# EAGLE library part ESP12 (library ESP)
Wi07-12 Footprint
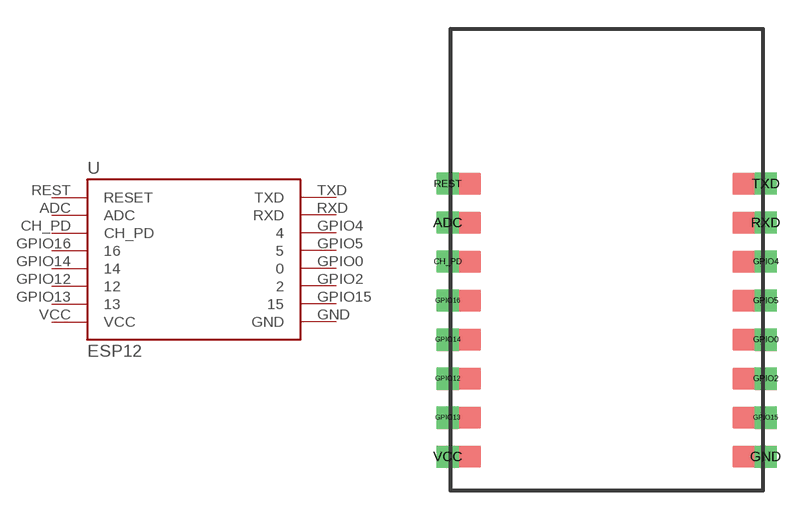
[diagram p2: symbol with the pads of ESP12; footprint ESP12]

Designator prefix U

## ESP12  [ESP12]
ADC  ADC  in
CH_PD  CH_PD  in
GND  GND  pwr
GPIO0  0
GPIO2  2
GPIO4  4
GPIO5  5
GPIO12  12
GPIO13  13
GPIO14  14
GPIO15  15
GPIO16  16
REST  RESET  in
RXD  RXD  out
TXD  TXD  in
VCC  VCC  pwr

## Footprint ESP12 (pad centres in mm)
drill 0.03 pad 1.15 square: ADC -0.166,-10.09; CH_PD -0.166,-12.122; GND 16.382,-22.282; GPIO0 16.382,-16.186; GPIO2 16.382,-18.218; GPIO4 16.382,-12.122; GPIO5 16.382,-14.154; GPIO12 -0.166,-18.218; GPIO13 -0.166,-20.25; GPIO14 -0.166,-16.186; GPIO15 16.382,-20.25; GPIO16 -0.166,-14.154; RXD 16.382,-10.09; TXD 16.382,-8.058; VCC -0.166,-22.282
drill 0.003 pad 1.15 square: REST -0.166,-8.058